# Altium integrated library 395443006.IntLib: 1 symbol
Pins are listed as number, name and electrical type; pins without a type are passive.

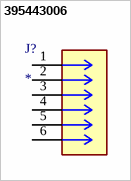
[diagram p0: symbol 395443006]

## 395443006
designator J?
MP: 395443006; Package: None; Price: None; Value: *; Availability: Unavailable
footprint CONN_39544-3006_MOL
pins: 1, 2, 3, 4, 5, 6